# Altium schematic symbol library Schlib.SchLib: 2 symbols
Pins are listed as number, name and electrical type; pins without a type are passive.

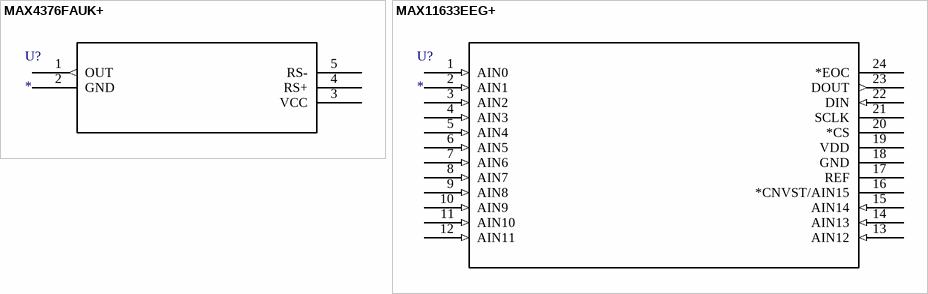
[diagram p0: symbols MAX4376FAUK+ to MAX11633EEG+]

## MAX4376FAUK+
designator U?
Imported; Manufacturer_Part_Number: max4376fauk+; Vendor: MAXIM; RefDes: RefDes; Type: DEV; Value: Value
footprint 21-0057F
pins: 1 OUT (out), 2 GND (power), 3 VCC (power), 4 RS+, 5 RS-

## MAX11633EEG+
designator U?
Imported; Manufacturer_Part_Number: MAX11633EEG+; Vendor: MAXIM; Manufacturer_Name: Maxim; RefDes: RefDes; Type: DEV; Value: Value
footprint 21-0055H_24
pins: 1 AIN0 (in), 2 AIN1 (in), 3 AIN2 (in), 4 AIN3 (in), 5 AIN4 (in), 6 AIN5 (in), 7 AIN6 (in), 8 AIN7 (in), 9 AIN8 (in), 10 AIN9 (in), 11 AIN10 (in), 12 AIN11 (in), 13 AIN12 (in), 14 AIN13 (in), 15 AIN14 (in), 16 *CNVST/AIN15, 17 REF, 18 GND (power), 19 VDD (power), 20 *CS, 21 SCLK, 22 DIN (in), 23 DOUT (out), 24 *EOC